# EAGLE library part TPS6211* (library salvador-parts-imported)
TPS62112: 1.5A Step-Down Converter
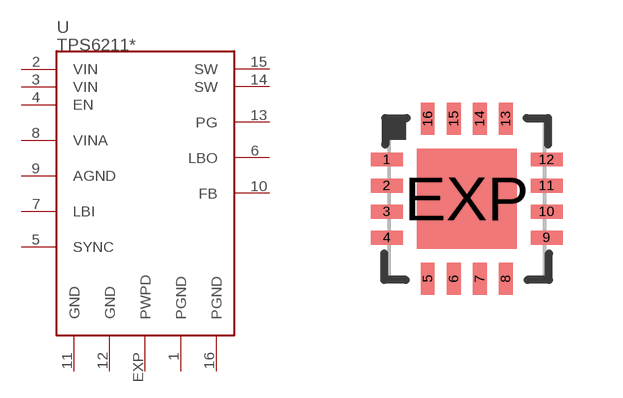
[diagram p25: symbol with the pads of QFN16-4X4; footprint QFN16-4X4]

Designator prefix U

## TPS6211  [QFN16-4X4]
1  PGND  pwr
2  VIN  pwr
3  VIN  pwr
4  EN  in
5  SYNC  in
6  LBO  out
7  LBI  in
8  VINA  pwr
9  AGND  pwr
10  FB  in
11  GND  pwr
12  GND  pwr
13  PG  out
14  SW  out
15  SW  out
16  PGND  pwr
EXP  PWPD  pwr

## Footprint QFN16-4X4 (pad centres in mm)
16-Lead Plastic Quad Flat, No Lead Package (ML) - 4x4x0.9mm Body [QFN] Source: http://ww1.microchip.com/downloads/en/DeviceDoc/41203E.pdf
smd 0.8 x 0.35: 1 -2,0.975; 2 -2,0.325; 3 -2,-0.325; 4 -2,-0.975; 9 2,-0.975; 10 2,-0.325; 11 2,0.325; 12 2,0.975
smd 0.35 x 0.8: 5 -0.975,-2; 6 -0.325,-2; 7 0.325,-2; 8 0.975,-2; 13 0.975,2; 14 0.325,2; 15 -0.325,2; 16 -0.975,2
smd 2.5 x 2.5: EXP 0,0